# EAGLE library part 10051922-1010ELF (library FCI-tkr)
FFC/FPC CONNECTOR, 10POS, 1ROW
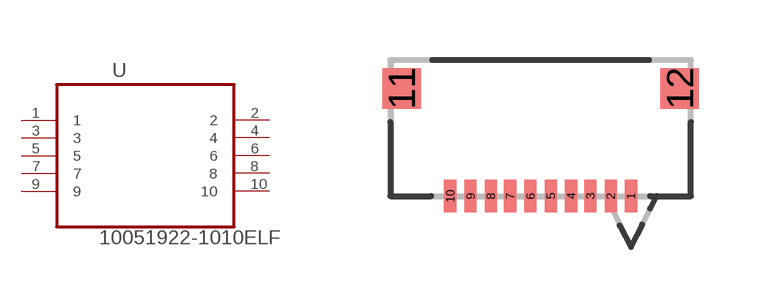
[diagram p0: symbol with the pads of FCI_10051922-1010ELF; footprint FCI_10051922-1010ELF]

Designator prefix U

## 10051922-1010ELF (MPN: 10051922-1010ELF; OC_FARNELL: 1835842; OC_NEWARK: 95M0573; PACKAGE: CONNECTOR-10POS; SUPPLIER: FCI)  [FCI_10051922-1010ELF]
1  1  pas
2  2  pas
3  3  pas
4  4  pas
5  5  pas
6  6  pas
7  7  pas
8  8  pas
9  9  pas
10  10  pas

## Footprint FCI_10051922-1010ELF (pad centres in mm)
smd 0.305 x 0.813: 1 2.261,1.702; 2 1.753,1.702; 3 1.245,1.702; 4 0.762,1.702; 5 0.254,1.702; 6 -0.254,1.702; 7 -0.762,1.702; 8 -1.245,1.702; 9 -1.753,1.702; 10 -2.261,1.702
smd 0.965 x 1.016: 11 -3.48,4.394; 12 3.48,4.394